# EAGLE library part LED13BOARD (library jason-test)
Rotary encoder LED board (13 LEDs)
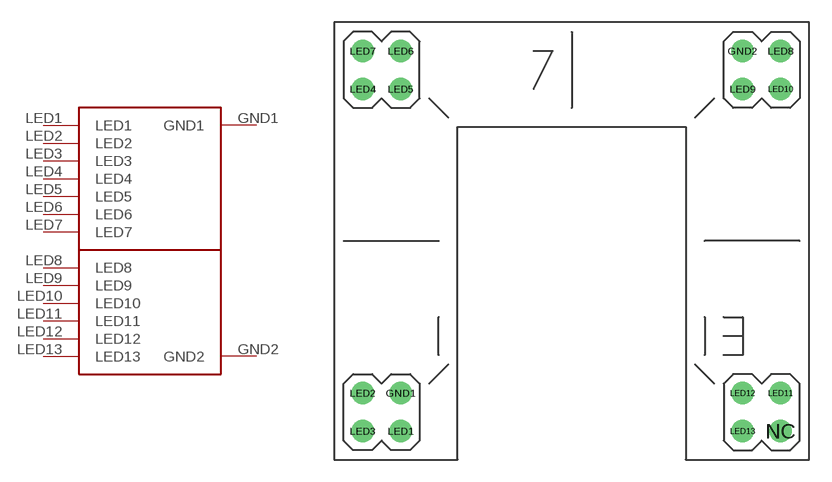
[diagram p5: symbol with the pads of LED13BOARD; footprint LED13BOARD]

Designator prefix -

## LED13BOARD  [LED13BOARD]
GND1  GND1
GND2  GND2
LED1  LED1
LED2  LED2
LED3  LED3
LED4  LED4
LED5  LED5
LED6  LED6
LED7  LED7
LED8  LED8
LED9  LED9
LED10  LED10
LED11  LED11
LED12  LED12
LED13  LED13

## Footprint LED13BOARD (pad centres in mm)
Rotary encoder LED board
drill 1 round: GND1 3.81,3.81; GND2 26.67,26.67; LED1 3.81,1.27; LED2 1.27,3.81; LED3 1.27,1.27; LED4 1.27,24.13; LED5 3.81,24.13; LED6 3.81,26.67; LED7 1.27,26.67; LED8 29.21,26.67; LED9 26.67,24.13; LED10 29.21,24.13; LED11 29.21,3.81; LED12 26.67,3.81; LED13 26.67,1.27; NC 29.21,1.27